# Altium footprint library 二极管.PcbLib: 12 footprints
Each footprint in its own frame and in the unit in brackets; x right, y up, seen from the top. Pads: shape width x height; smd on the part's side, far side on the other; paste and mask are expansions set on the pad; w line width, h text height; cw(c..) or ccw(c..) is an arc to the next point about the centre after c.
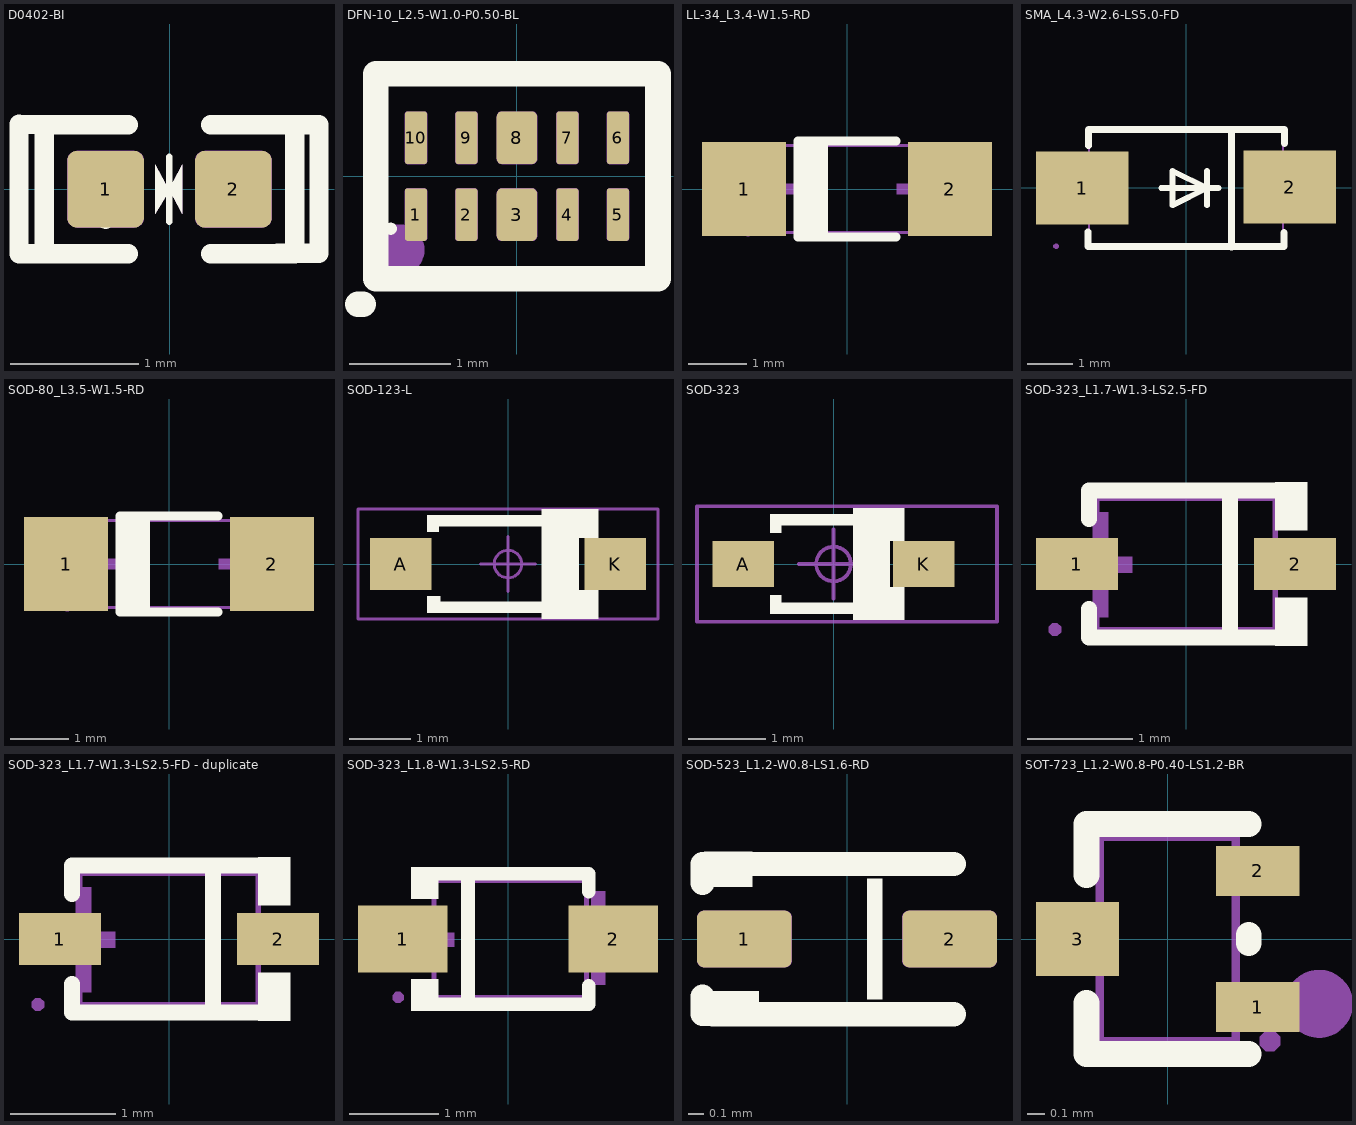
[diagram p0: the footprints below, top view; thin cyan lines are the x and y axes]

## D0402-BI [mm] "0402; DFN1006; D0402; -; ESD0402; D0402-BI; SMD-2P; DFN1006-2L"
height 4999.99
pads (2):
  rrect25% 0.6x0.6 smd mask+0.05: 1(-0.5,0) 2(0.5,0)
Top Overlay:
  region: 0,-0.01 -0.11,-0.19 -0.11,-0.01 -0.11,0.19
  region: 0,0 0.1,0.19 0.1,-0.19
  region: -0.44,-0.25 -0.441,-0.238 -0.445,-0.227 -0.45,-0.217 -0.458,-0.208 -0.467,-0.2 -0.477,-0.195 -0.488,-0.191 -0.5,-0.19 -0.512,-0.191 -0.523,-0.195 -0.533,-0.2 -0.542,-0.208 -0.55,-0.217 -0.555,-0.227 -0.559,-0.238 -0.56,-0.25 -0.559,-0.262 -0.555,-0.273 -0.55,-0.283 -0.542,-0.292 -0.533,-0.3 -0.523,-0.305 -0.512,-0.309 -0.5,-0.31 -0.488,-0.309 -0.477,-0.305 -0.467,-0.3 -0.458,-0.292 -0.45,-0.283 -0.445,-0.273 -0.441,-0.262
  lines w0.051: 0,-0.254 0,0.254
  lines w0.152: -1.17,-0.504 -0.981,-0.504 ; -0.975,-0.504 -1.178,-0.504 -1.178,0.508 -0.981,0.504 ; -0.324,0.504 -0.981,0.504 ; 0.324,-0.504 0.981,-0.504 0.981,0.504 ; 0.324,0.504 0.981,0.504 ; 0.847,-0.5 1.17,-0.5 1.17,0.504 0.981,0.504 ; -0.981,-0.504 -0.324,-0.504 -0.981,-0.504 ; -0.981,-0.504 -0.981,0.504 ; -0.981,-0.504 -0.981,0.504
Bottom Component Outline:
  region: 0,-0.01 -0.11,-0.19 -0.11,-0.01 -0.11,0.19
  region: 0,0 0.1,0.19 0.1,-0.19
Mechanical 9:
  region: 0.275,-0.3 0.725,-0.3 0.74,-0.299 0.754,-0.294 0.767,-0.287 0.778,-0.278 0.787,-0.267 0.794,-0.254 0.799,-0.24 0.8,-0.225 0.8,0.225 0.799,0.24 0.794,0.254 0.787,0.267 0.778,0.278 0.767,0.287 0.754,0.294 0.74,0.299 0.725,0.3 0.275,0.3 0.26,0.299 0.246,0.294 0.233,0.287 0.222,0.278 0.213,0.267 0.206,0.254 0.201,0.24 0.2,0.225 0.2,-0.225 0.201,-0.24 0.206,-0.254 0.213,-0.267 0.222,-0.278 0.233,-0.287 0.246,-0.294 0.26,-0.299 0.275,-0.3
  region: -0.725,-0.3 -0.275,-0.3 -0.26,-0.299 -0.246,-0.294 -0.233,-0.287 -0.222,-0.278 -0.213,-0.267 -0.206,-0.254 -0.201,-0.24 -0.2,-0.225 -0.2,0.225 -0.201,0.24 -0.206,0.254 -0.213,0.267 -0.222,0.278 -0.233,0.287 -0.246,0.294 -0.26,0.299 -0.275,0.3 -0.725,0.3 -0.74,0.299 -0.754,0.294 -0.767,0.287 -0.778,0.278 -0.787,0.267 -0.794,0.254 -0.799,0.24 -0.8,0.225 -0.8,-0.225 -0.799,-0.24 -0.794,-0.254 -0.787,-0.267 -0.778,-0.278 -0.767,-0.287 -0.754,-0.294 -0.74,-0.299 -0.725,-0.3
3D body "D0402_L1.0-W0.5-H0.5.step": height 0.5, standoff 0, extent -0.5,-0.25 0.5,0.25

## DFN-10_L2.5-W1.0-P0.50-BL [mm] "DFN-10(1x2.5); DFN-10; DFN2510-10; DFN2510-10L"
height 4999.99
pads (10):
  rrect25% 0.22x0.521 smd mask+0.05: 1(-1,-0.38) 2(-0.5,-0.38) 4(0.5,-0.38) 5(1,-0.38) 6(1,0.38) 7(0.5,0.38) 9(-0.5,0.38) 10(-1,0.38)
  rrect25% 0.4x0.521 smd mask+0.05: 3(0,-0.38) 8(0,0.38)
Top Overlay:
  region: -1.19,-0.52 -1.191,-0.508 -1.194,-0.497 -1.2,-0.486 -1.207,-0.477 -1.217,-0.47 -1.227,-0.464 -1.238,-0.461 -1.25,-0.46 -1.262,-0.461 -1.273,-0.464 -1.283,-0.47 -1.292,-0.477 -1.3,-0.486 -1.305,-0.497 -1.309,-0.508 -1.31,-0.52 -1.309,-0.531 -1.305,-0.543 -1.3,-0.553 -1.292,-0.562 -1.283,-0.57 -1.273,-0.575 -1.262,-0.579 -1.25,-0.58 -1.238,-0.579 -1.227,-0.575 -1.217,-0.57 -1.207,-0.562 -1.2,-0.553 -1.194,-0.543 -1.191,-0.531
  lines w0.254: -1.574,-1.27 -1.524,-1.27 ; -1.397,-0.889 -1.397,1.016 1.397,1.016 1.397,-1.016 -1.397,-1.016 -1.397,-0.635
Bottom Component Outline:
  circle w0.254: c-1.17,-0.73 r0.127
Mechanical 9:
  drawing of 10 lines, arcs and shapes, not listed
3D body "DFN-10_L2.5-W1.0-H0.5-P0.50.step": height 0.5, standoff 0, extent -1.25,-0.5 1.25,0.5

## LL-34_L3.4-W1.5-RD [mm]
pads (2):
  rect 1.44x1.62 smd: 1(-1.765,0) 2(1.765,0)
Top Overlay:
  region: -0.842,0.801 -0.334,0.801 -0.334,-0.801 -0.842,-0.801
  lines w0.152: 0.842,-0.826 -0.842,-0.826 -0.842,0.826 0.842,0.826
Mechanical 6:
  region: -1.57,-0.09 -1.57,0.09 -0.85,0.09 -0.85,-0.09
  region: 1.57,-0.09 1.57,0.09 0.85,0.09 0.85,-0.09
  region: 1.3,-0.6 1.3,0.6 1.12,0.6 1.12,-0.6
Mechanical 15:
  region: -1.64,-0.75 -1.64,-0.725 -1.675,-0.69 -1.725,-0.69 -1.76,-0.725 -1.76,-0.75 -1.76,-0.775 -1.725,-0.81 -1.675,-0.81 -1.64,-0.775 -1.64,-0.75
  region: 1.3,0.75 1.7,0.75 1.7,-0.75 1.3,-0.75
  region: -1.7,0.75 -1.3,0.75 -1.3,-0.75 -1.7,-0.75
  lines w0.051: -1.7,-0.75 -1.7,0.75 1.7,0.75 1.7,-0.75 -1.7,-0.75

## SMA_L4.3-W2.6-LS5.0-FD [mm]
pads (2):
  rect 2.046x1.62 smd: 1(-2.304,-0.009) 2(2.304,0.009)
Top Overlay:
  lines w0.127: -0.551,-0.01 0.719,-0.01 ; 0.465,-0.391 0.465,-0.01 ; 0.465,0.371 0.465,-0.01 ; 0.465,-0.01 -0.297,0.371 -0.297,-0.01 -0.297,-0.391 0.465,-0.01
  lines w0.152: -2.17,-0.979 -2.17,-1.309 2.177,-1.309 2.177,-0.998 ; -2.16,0.93 -2.16,1.288 2.186,1.288 2.186,0.977 ; 1.007,-1.321 1.007,1.276
Mechanical 6:
  region: 2.432,0.097 2.432,-0.097 1.659,-0.097 1.659,0.097
  region: -2.432,0.097 -2.432,-0.097 -1.659,-0.097 -1.659,0.097
  region: -2.142,0.644 -2.142,-0.644 -1.949,-0.644 -1.949,0.644
Mechanical 15:
  region: -2.5,-0.734 -2.5,0.716 -1.35,0.716 -1.35,-0.734
  region: 2.5,0.734 2.5,-0.716 1.35,-0.716 1.35,0.734
  region: -2.819,-1.3 -2.819,-1.275 -2.854,-1.24 -2.904,-1.24 -2.939,-1.275 -2.939,-1.3 -2.939,-1.325 -2.904,-1.36 -2.854,-1.36 -2.819,-1.325 -2.819,-1.3
  lines w0.051: -2.15,-1.3 2.15,-1.3 2.15,1.3 -2.15,1.3 -2.15,-1.3

## SOD-80_L3.5-W1.5-RD [mm]
pads (2):
  rect 1.44x1.62 smd: 1(-1.765,0) 2(1.765,0)
Top Overlay:
  region: -0.842,0.801 -0.334,0.801 -0.334,-0.801 -0.842,-0.801
  lines w0.152: 0.842,-0.826 -0.842,-0.826 -0.842,0.826 0.842,0.826
Mechanical 6:
  region: -1.57,-0.09 -1.57,0.09 -0.85,0.09 -0.85,-0.09
  region: 1.57,-0.09 1.57,0.09 0.85,0.09 0.85,-0.09
  region: 1.3,-0.6 1.3,0.6 1.12,0.6 1.12,-0.6
Mechanical 15:
  region: -1.69,-0.75 -1.69,-0.725 -1.725,-0.69 -1.775,-0.69 -1.81,-0.725 -1.81,-0.75 -1.81,-0.775 -1.775,-0.81 -1.725,-0.81 -1.69,-0.775 -1.69,-0.75
  region: -1.75,-0.75 -1.75,0.75 -1.28,0.75 -1.28,-0.75
  region: 1.75,-0.75 1.75,0.75 1.28,0.75 1.28,-0.75
  lines w0.051: -1.75,-0.75 -1.75,0.75 1.75,0.75 1.75,-0.75 -1.75,-0.75

## SOD-123-L [mm] "SOD Diode;2.70mm W X 1.60mm L X 1.35mm H body"
height 1.35
pads (2):
  rect 1x0.85 smd: A(-1.75,0) K(1.75,0)
Top Overlay:
  rectangle: 0.549,-0.801 1.158,0.799
  rectangle: 0.549,-0.899 1.474,-0.696
  rectangle: -1.143,0.612 0.584,0.8
  rectangle: 0.549,0.698 1.474,0.901
  rectangle: -1.143,-0.8 0.584,-0.612
  rectangle: 1.15,0.425 1.475,0.8
  rectangle: 1.15,-0.8 1.475,-0.425
  region: -1.1,-0.525 -1.325,-0.525 -1.325,-0.8 -1.1,-0.8
  region: -1.125,0.8 -1.325,0.8 -1.325,0.525 -1.125,0.525
Top Designator:
  text ".Designator" at -2.252,-0.226 h1
Top Component Outline:
  lines w0.05: -2.45,-0.9 -2.45,0.9 2.45,0.9 2.45,-0.9 -2.45,-0.9
Top Component Center:
  circle w0.05: c0,0 r0.225
  lines w0.05: -0.45,0 0.45,0 ; 0,-0.45 0,0.45
3D body "SOD-123.STEP": height 1.2, standoff 0, extent -1.85,-0.8 1.85,0.8

## SOD-323 [mm] "SOD Diode;1.65mm W X 1.24mm L X 1.16mm H body"
height 1.16
pads (2):
  rect 0.8x0.6 smd: A(-1.175,0) K(1.175,0)
Top Overlay:
  rectangle: -0.825,-0.65 -0.675,-0.4
  rectangle: -0.825,-0.65 0.65,-0.5
  rectangle: -0.825,0.4 -0.675,0.65
  rectangle: -0.825,0.5 0.65,0.65
  rectangle: 0.254,-0.725 0.737,0.725
  rectangle: 0.575,0.3 0.925,0.725
  rectangle: 0.575,-0.725 0.925,-0.3
Top Designator:
  text ".Designator" at -2.077,-0.226 h1
Top Component Outline:
  lines w0.05: -1.775,-0.75 2.125,-0.75 2.125,0.75 -1.775,0.75 -1.775,-0.75
Top Component Center:
  circle w0.05: c0,0 r0.225
  lines w0.05: -0.45,0 0.45,0 ; 0,-0.45 0,0.45
3D body "SOD-323.STEP": height 1, standoff 0, extent -1.3,-0.65 1.3,0.65

## SOD-323_L1.7-W1.3-LS2.5-FD [mm]
pads (2):
  rect 0.78x0.5 smd: 1(-1.04,0) 2(1.04,0)
Top Overlay:
  region: 0.85,0.32 1.155,0.32 1.155,0.777 0.85,0.777
  region: 0.85,-0.32 1.155,-0.32 1.155,-0.777 0.85,-0.777
  lines w0.152: -0.926,-0.43 -0.926,-0.701 0.926,-0.701 ; -0.926,0.43 -0.926,0.701 0.926,0.701 ; 0.421,-0.701 0.421,0.701
Mechanical 6:
  region: -1.114,-0.083 -1.114,0.067 -0.514,0.067 -0.514,-0.083
  region: 1.316,-0.075 1.316,0.075 0.716,0.075 0.716,-0.075
  region: -0.889,-0.508 -0.889,0.492 -0.739,0.492 -0.739,-0.508
Mechanical 15:
  region: -1.19,-0.625 -1.19,-0.6 -1.225,-0.565 -1.275,-0.565 -1.31,-0.6 -1.31,-0.625 -1.31,-0.65 -1.275,-0.685 -1.225,-0.685 -1.19,-0.65 -1.19,-0.625
  region: -1.25,-0.16 -0.95,-0.16 -0.95,0.16 -1.25,0.16
  region: -0.96,-0.16 -0.84,-0.16 -0.84,0.16 -0.96,0.16
  region: 1.25,-0.16 0.95,-0.16 0.95,0.16 1.25,0.16
  region: 0.96,-0.16 0.84,-0.16 0.84,0.16 0.96,0.16
  lines w0.051: -0.85,-0.625 0.85,-0.625 0.85,0.625 -0.85,0.625 -0.85,-0.625

## SOD-323_L1.7-W1.3-LS2.5-FD - duplicate [mm]
pads (2):
  rect 0.78x0.5 smd: 1(-1.04,0) 2(1.04,0)
Top Overlay:
  region: 0.85,-0.32 1.155,-0.32 1.155,-0.777 0.85,-0.777
  region: 0.85,0.32 1.155,0.32 1.155,0.777 0.85,0.777
  lines w0.152: -0.926,-0.43 -0.926,-0.701 0.926,-0.701 ; -0.926,0.43 -0.926,0.701 0.926,0.701 ; 0.421,-0.701 0.421,0.701
Mechanical 6:
  region: -0.889,-0.508 -0.889,0.492 -0.739,0.492 -0.739,-0.508
  region: 1.316,-0.075 1.316,0.075 0.716,0.075 0.716,-0.075
  region: -1.114,-0.083 -1.114,0.067 -0.514,0.067 -0.514,-0.083
Mechanical 15:
  region: 0.96,-0.16 0.84,-0.16 0.84,0.16 0.96,0.16
  region: 1.25,-0.16 0.95,-0.16 0.95,0.16 1.25,0.16
  region: -0.96,-0.16 -0.84,-0.16 -0.84,0.16 -0.96,0.16
  region: -1.25,-0.16 -0.95,-0.16 -0.95,0.16 -1.25,0.16
  region: -1.19,-0.625 -1.19,-0.6 -1.225,-0.565 -1.275,-0.565 -1.31,-0.6 -1.31,-0.625 -1.31,-0.65 -1.275,-0.685 -1.225,-0.685 -1.19,-0.65 -1.19,-0.625
  lines w0.051: -0.85,-0.625 -0.85,0.625 0.85,0.625 0.85,-0.625 -0.85,-0.625

## SOD-323_L1.8-W1.3-LS2.5-RD [mm]
pads (2):
  rect 1x0.75 smd: 1(-1.173,0) 2(1.173,0)
Top Overlay:
  region: -0.775,0.802 -0.775,0.45 -1.08,0.45 -1.08,0.802
  region: -0.775,-0.802 -0.775,-0.45 -1.08,-0.45 -1.08,-0.802
  lines w0.152: -0.851,-0.726 0.901,-0.726 0.901,-0.52 ; -0.851,0.726 0.901,0.726 0.901,0.53 ; -0.447,-0.726 -0.447,0.726
Mechanical 6:
  region: -1.225,0.07 -1.225,-0.086 -0.601,-0.086 -0.601,0.07
  region: 1.315,0.09 1.315,-0.066 0.691,-0.066 0.691,0.09
  region: 1.083,0.53 1.083,-0.51 0.927,-0.51 0.927,0.53
Mechanical 15:
  region: -1.165,-0.65 -1.165,-0.625 -1.2,-0.59 -1.25,-0.59 -1.285,-0.625 -1.285,-0.65 -1.285,-0.675 -1.25,-0.71 -1.2,-0.71 -1.165,-0.675 -1.165,-0.65
  region: 1.275,0.16 1.275,-0.16 0.975,-0.16 0.975,0.16
  region: 0.985,0.16 0.985,-0.16 0.865,-0.16 0.865,0.16
  region: -0.925,0.16 -0.925,-0.16 -1.225,-0.16 -1.225,0.16
  region: -0.815,0.16 -0.815,-0.16 -0.935,-0.16 -0.935,0.16
  lines w0.051: -0.825,-0.65 0.875,-0.65 0.875,0.65 -0.825,0.65 -0.825,-0.65

## SOD-523_L1.2-W0.8-LS1.6-RD [mm] "SOD-523; SOD523; SOD-523-2; SOT-23(TO-236); ESC; SOT-523; 0; SOD-323; SOD-523F; SC-79; SOD-523(0603); SOD-523_L1.2-W0.8-LS1.6; SOD-523_L1.2-W0.8-LS1.6-RD; -; STD5NC033B; SOD523F; SC-79(SOD-523); SOD-525; IN5819WS; EMD2"
height -3909.206
pads (2):
  rrect25% 0.6x0.36 smd mask+0.05: 1(-0.65,0) 2(0.65,0)
Top Overlay:
  region: -0.74,-0.4 -0.741,-0.388 -0.745,-0.377 -0.75,-0.367 -0.758,-0.358 -0.767,-0.35 -0.777,-0.345 -0.788,-0.341 -0.8,-0.34 -0.812,-0.341 -0.823,-0.345 -0.833,-0.35 -0.843,-0.358 -0.85,-0.367 -0.856,-0.377 -0.859,-0.388 -0.86,-0.4 -0.859,-0.412 -0.856,-0.423 -0.85,-0.433 -0.843,-0.442 -0.833,-0.45 -0.823,-0.455 -0.812,-0.459 -0.8,-0.46 -0.788,-0.459 -0.777,-0.455 -0.767,-0.45 -0.758,-0.442 -0.75,-0.433 -0.745,-0.423 -0.741,-0.412
  region: -0.6,0.552 -0.6,0.332 -0.905,0.332 -0.905,0.552
  region: -0.56,-0.552 -0.56,-0.332 -0.864,-0.332 -0.864,-0.552
  region: 0.223,0.381 0.223,-0.381 0.127,-0.381 0.127,0.381
  lines w0.152: -0.914,-0.363 -0.914,-0.476 -0.676,-0.476 0.676,-0.476 ; -0.914,0.356 -0.914,0.476 -0.676,0.476 0.676,0.476
Bottom Component Outline:
  region: -0.887,0.055 -0.887,-0.041 -0.503,-0.041 -0.503,0.055
  region: 0.88,0.048 0.88,-0.048 0.496,-0.048 0.496,0.048
Mechanical 9:
  region: 0.395,-0.18 0.905,-0.18 0.914,-0.179 0.922,-0.177 0.93,-0.172 0.937,-0.167 0.942,-0.16 0.947,-0.152 0.949,-0.144 0.95,-0.135 0.95,0.135 0.949,0.144 0.947,0.152 0.942,0.16 0.937,0.167 0.93,0.172 0.922,0.177 0.914,0.179 0.905,0.18 0.395,0.18 0.386,0.179 0.378,0.177 0.37,0.172 0.363,0.167 0.358,0.16 0.353,0.152 0.351,0.144 0.35,0.135 0.35,-0.135 0.351,-0.144 0.353,-0.152 0.358,-0.16 0.363,-0.167 0.37,-0.172 0.378,-0.177 0.386,-0.179 0.395,-0.18
  region: -0.905,-0.18 -0.395,-0.18 -0.386,-0.179 -0.378,-0.177 -0.37,-0.172 -0.363,-0.167 -0.358,-0.16 -0.353,-0.152 -0.351,-0.144 -0.35,-0.135 -0.35,0.135 -0.351,0.144 -0.353,0.152 -0.358,0.16 -0.363,0.167 -0.37,0.172 -0.378,0.177 -0.386,0.179 -0.395,0.18 -0.905,0.18 -0.914,0.179 -0.922,0.177 -0.93,0.172 -0.937,0.167 -0.942,0.16 -0.947,0.152 -0.949,0.144 -0.95,0.135 -0.95,-0.135 -0.949,-0.144 -0.947,-0.152 -0.942,-0.16 -0.937,-0.167 -0.93,-0.172 -0.922,-0.177 -0.914,-0.179 -0.905,-0.18
3D body "SOD-523_L1.2-W0.8-H0.7-LS1.6.step": height 0.7, standoff 0, extent -0.6,-0.4 0.6,0.4

## SOT-723_L1.2-W0.8-P0.40-LS1.2-BR [mm]
pads (3):
  rect 0.489x0.294 smd: 1(0.53,-0.4) 2(0.53,0.4)
  rect 0.489x0.434 smd: 3(-0.53,0)
Top Overlay:
  lines w0.152: -0.476,-0.376 -0.476,-0.676 0.476,-0.676 ; -0.476,0.376 -0.476,0.676 0.476,0.676 ; 0.476,-0.024 0.476,0.024
Mechanical 6:
  circle w0.2: c0.889,-0.381 r0.1
Mechanical 15:
  region: -0.31,-0.155 -0.31,0.155 -0.6,0.155 -0.6,-0.155
  region: 0.31,0.295 0.31,0.505 0.6,0.505 0.6,0.295
  region: 0.31,-0.505 0.31,-0.295 0.6,-0.295 0.6,-0.505
  region: 0.66,-0.6 0.66,-0.575 0.625,-0.54 0.575,-0.54 0.54,-0.575 0.54,-0.6 0.54,-0.625 0.575,-0.66 0.625,-0.66 0.66,-0.625 0.66,-0.6
  lines w0.051: -0.4,-0.6 0.4,-0.6 0.4,0.6 -0.4,0.6 -0.4,-0.6